# Altium footprint library ADS1118.PcbLib: 3 footprints
Each footprint in its own frame and in the unit in brackets; x right, y up, seen from the top. Pads: shape width x height; smd on the part's side, far side on the other; paste and mask are expansions set on the pad; w line width, h text height; cw(c..) or ccw(c..) is an arc to the next point about the centre after c.
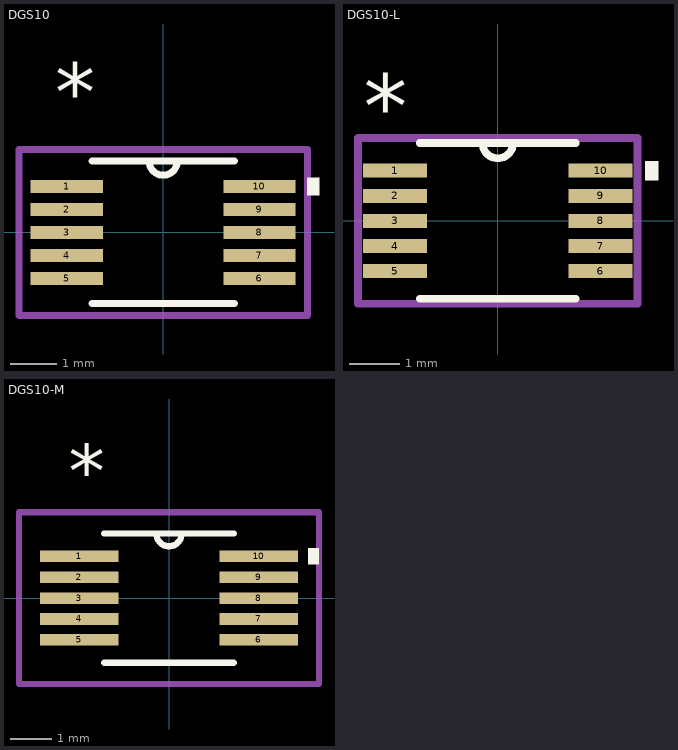
[diagram p0: the footprints below, top view; thin cyan lines are the x and y axes]

## DGS10 [mil]
pads (10):
  rect 62x11 smd: 1(-82.5,39.37) 2(-82.5,19.68) 3(-82.5,0) 4(-82.5,-19.68) 5(-82.5,-39.37) 6(82.5,-39.37) 7(82.5,-19.68) 8(82.5,0) 9(82.5,19.68) 10(82.5,39.37)
Top Overlay:
  region: 123.5,46.87 133.5,46.87 133.5,31.87 123.5,31.87
  lines w6: -61,-61 61,-61 ; -61,61 61,61 ; -12,61 ccw(c0,61) 12,61
  text "*" at -92.5,95.37 h50
Mechanical 13:
  lines w0: -12,61 ccw(c0,61) 12,61
  text "*" at -92.5,95.37 h50
Mechanical 15:
  lines w6: -123.5,-71 -123.5,71 123.5,71 123.5,-71 -123.5,-71
3D body "DGS10.stp": height 43.1, standoff 0, extent -99.5,-61 99.5,61

## DGS10-L [mil]
pads (10):
  rect 50x11 smd: 1(-80.5,39.37) 2(-80.5,19.68) 3(-80.5,0) 4(-80.5,-19.68) 5(-80.5,-39.37) 6(80.5,-39.37) 7(80.5,-19.68) 8(80.5,0) 9(80.5,19.68) 10(80.5,39.37)
Top Overlay:
  region: 115.5,46.87 125.5,46.87 125.5,31.87 115.5,31.87
  lines w6: -61,-61 61,-61 ; -61,61 61,61 ; -12,61 ccw(c0,61) 12,61
  text "*" at -105,65 h50
Mechanical 13:
  lines w0: -12,61 ccw(c0,61) 12,61
  text "*" at -105,65 h50
Mechanical 15:
  lines w6: -109.5,-65 -109.5,65 109.5,65 109.5,-65 -109.5,-65
3D body "DGS10-L.stp": height 43.1, standoff 0, extent -99.5,-61 99.5,61

## DGS10-M [mil]
pads (10):
  rect 74x11 smd: 1(-84.5,39.37) 2(-84.5,19.68) 3(-84.5,0) 4(-84.5,-19.68) 5(-84.5,-39.37) 6(84.5,-39.37) 7(84.5,-19.68) 8(84.5,0) 9(84.5,19.68) 10(84.5,39.37)
Top Overlay:
  region: 131.5,46.87 141.5,46.87 141.5,31.87 131.5,31.87
  lines w6: -61,-61 61,-61 ; -61,61 61,61 ; -12,61 ccw(c0,61) 12,61
  text "*" at -94.5,95.37 h50
Mechanical 13:
  lines w0: -12,61 ccw(c0,61) 12,61
  text "*" at -94.5,95.37 h50
Mechanical 15:
  lines w6: -141.5,-81 -141.5,81 141.5,81 141.5,-81 -141.5,-81
3D body "DGS10-M.stp": height 43.1, standoff 0, extent -99.5,-61 99.5,61